# Altium schematic symbol library Schlib1.SchLib: 1 symbol
Pins are listed as number, name and electrical type; pins without a type are passive.

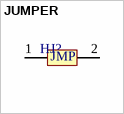
[diagram p0: symbol JUMPER]

## JUMPER
designator HJ?
footprint Jumper
pins: 1, 2
text: JMP